# Altium footprint library MF72-001P5D15.PcbLib: 1 footprints
Each footprint in its own frame and in the unit in brackets; x right, y up, seen from the top. Pads: shape width x height; smd on the part's side, far side on the other; paste and mask are expansions set on the pad; w line width, h text height; cw(c..) or ccw(c..) is an arc to the next point about the centre after c.
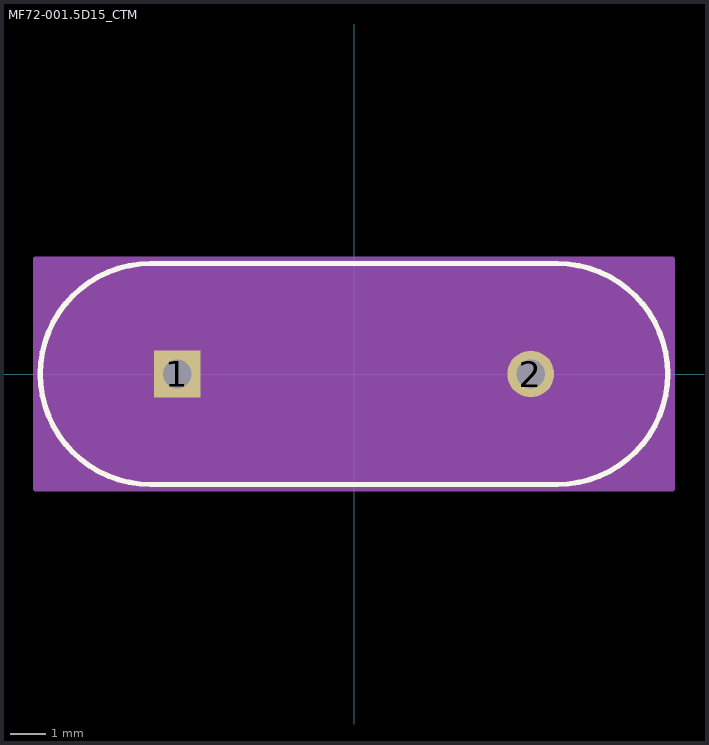
[diagram p0: the footprint, top view; thin cyan lines are the x and y axes]

## MF72-001.5D15_CTM [mil]
pads (2):
  rect 52x52 hole 32 paste-99999 mask+0: 1(-196.85,0)
  round 52 hole 32 paste-99999 mask+0: 2(196.85,0)
Top Overlay:
  lines w6: -226.38,-123.11 cw(c-226.38,0) -226.38,123.11 226.38,123.11 cw(c226.38,0) 349.49,0 cw(c226.38,0) 226.38,-123.11 -226.38,-123.11
  text ".Designator" at -137.5,-25 h50
Mechanical 13:
  lines w1: -226.38,-118.11 cw(c-226.38,0) -226.38,118.11 226.38,118.11 cw(c226.38,0) 226.38,-118.11 -226.38,-118.11
  text ".Designator" at -137.5,-25 h50
Mechanical 15:
  region: 354.49,-128.11 -354.49,-128.11 -354.49,128.11 354.49,128.11
  lines w6: -354.49,-128.11 354.49,-128.11 354.49,128.11 -354.49,128.11 -354.49,-128.11